# Altium integrated library liba.IntLib: 4 symbols
Pins are listed as number, name and electrical type; pins without a type are passive.

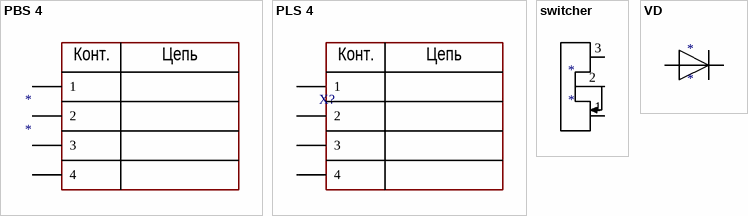
[diagram p0: symbols PBS 4 to VD]

## PBS 4
designator *
footprint PBS-4
footprint PBS-4 CUT
footprint PBS-4 RIGHT ANGLE
pins: 1, 2, 3, 4
text: Конт.; Цепь

## PLS 4
designator X?  (value not drawn)
footprint PLS-4
footprint pls-4 right angle
pins: 1, 2, 3, 4
text: Конт.; Цепь

## switcher
designator *
footprint switcher (SS-3292S-L1)
pins: 1, 2, 3

## VD
designator *
footprint SOD 523
pins: 1, 2